# Altium footprint library FS44B0.PcbLib: 40 footprints (part 2 of 3)
Each footprint in its own frame and in the unit in brackets; x right, y up, seen from the top. Pads: shape width x height; smd on the part's side, far side on the other; paste and mask are expansions set on the pad; w line width, h text height; cw(c..) or ccw(c..) is an arc to the next point about the centre after c.
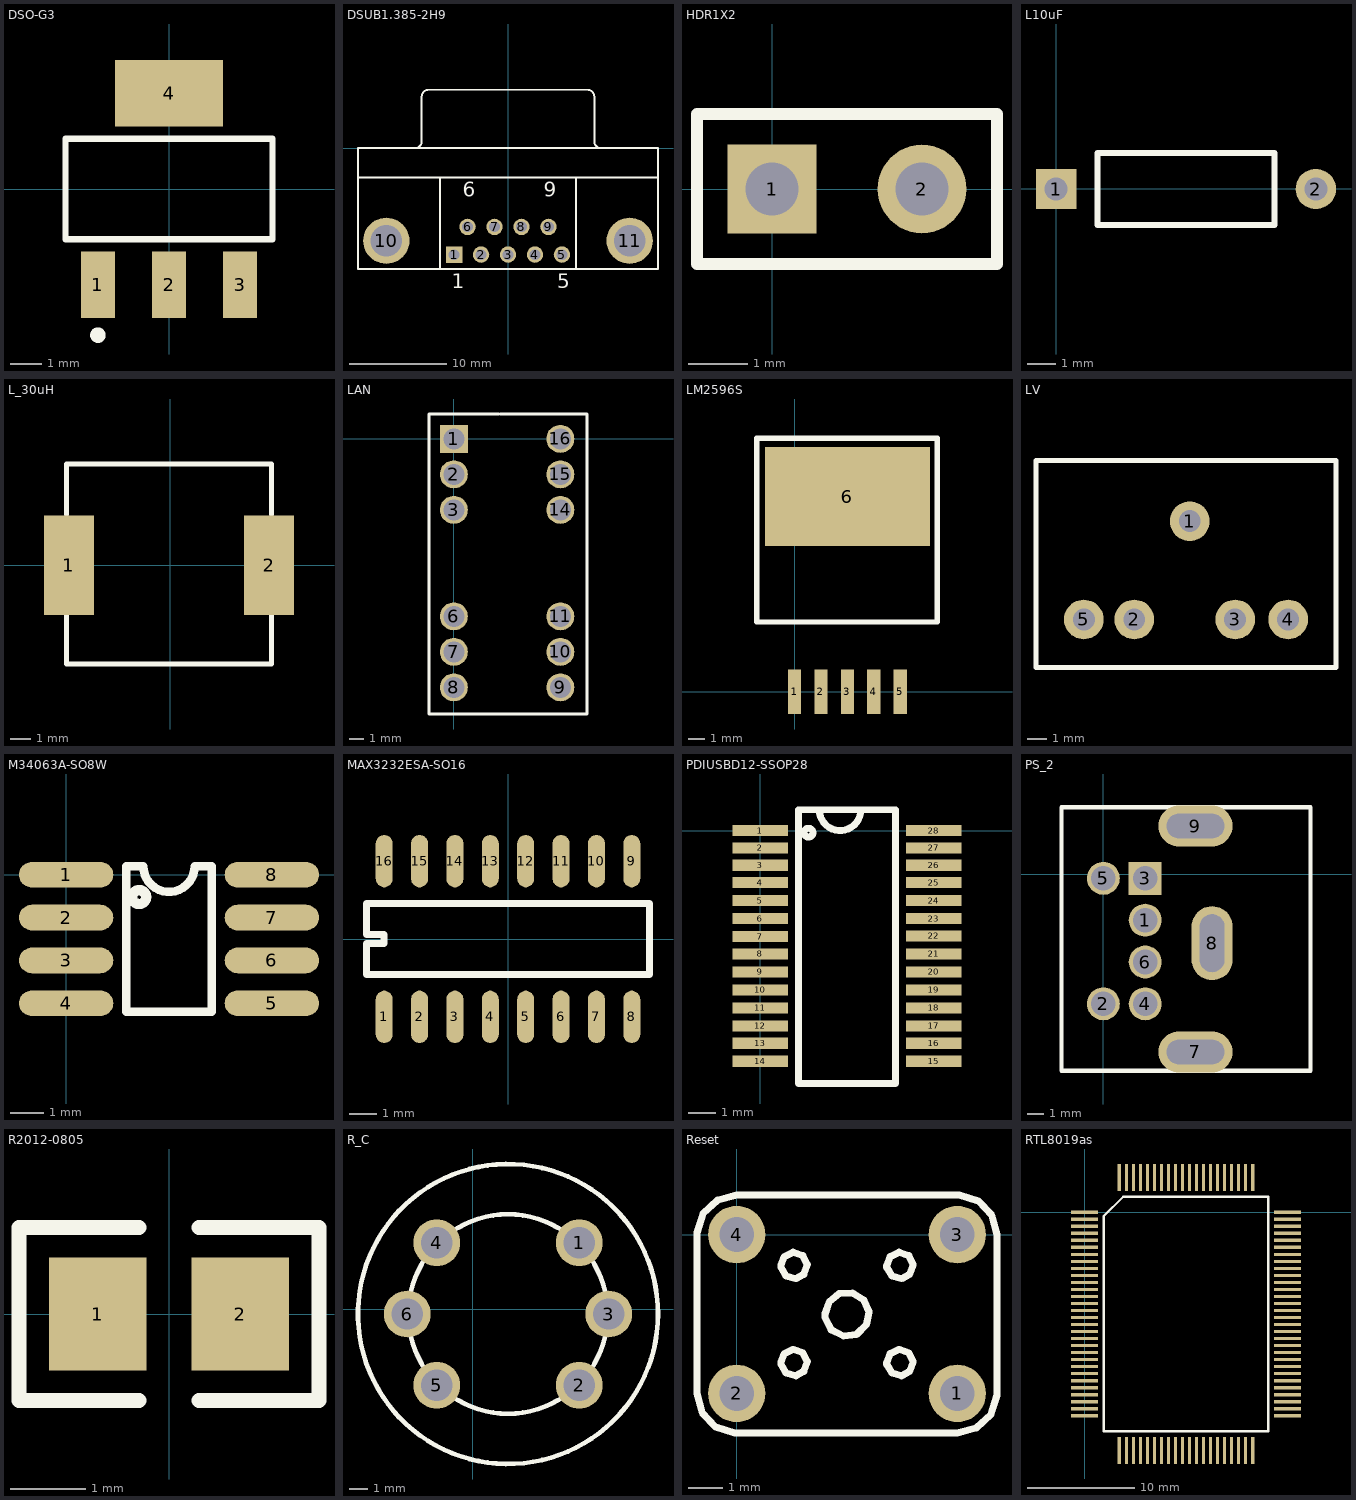
[diagram p1: the footprints below, top view; thin cyan lines are the x and y axes]

## DSO-G3 [mm] "SOT-223/SC-73; 4 Leads; Body 6.7 x 7.3 mm, inc. leads (LxW max)"
pads (4):
  rect 1.1x2.15 smd: 1(-2.3,-3.1) 2(0,-3.1) 3(2.3,-3.1)
  rect 3.5x2.15 smd: 4(0,3.1)
Top Overlay:
  circle w0.25: c-2.3,-4.725 r0.125
  lines w0.2: -3.35,-1.625 -3.35,1.625 3.35,1.625 3.35,-1.625 -3.35,-1.625

## DSUB1.385-2H9 [mm]
pads (11):
  rect 1.69x1.69 hole 1.09: 1(-5.54,-10.92)
  round 1.69 hole 1.09: 2(-2.77,-10.92) 3(0,-10.92) 4(2.77,-10.92) 5(5.54,-10.92) 6(-4.155,-8.08) 7(-1.385,-8.08) 8(1.385,-8.08) 9(4.155,-8.08)
  round 4.76 hole 3.26: 10(-12.495,-9.5) 11(12.495,-9.5)
Top Overlay:
  lines w0.2: -15.4,-3 15.4,-3 ; -9.56,0.005 ccw(c-9.56,0.7) -8.865,0.7 -8.865,5.3 ; -8.86,5.305 cw(c-8.165,5.305) -8.165,6 8.165,6 cw(c8.165,5.305) 8.86,5.305 ; -7,-12.4 -7,-3 ; 7,-12.4 7,-3 ; 8.865,5.3 8.865,0.7 ccw(c9.56,0.7) 9.56,0.005 ; -15.4,-12.4 15.4,-12.4 15.4,0 -15.4,0 -15.4,-12.4
  text "6" at -4.655,-4.975 h1.5
  text "9" at 3.655,-4.975 h1.5
  text "5" at 5.04,-14.375 h1.5
  text "1" at -5.79,-14.375 h1.5

## HDR1X2 [mm] "Connector; Header; 2 Position"
pads (2):
  rect 1.5x1.5 hole 0.9: 1(0,0)
  round 1.5 hole 0.9: 2(2.54,0)
Top Overlay:
  lines w0.2: -1.27,-1.27 -1.27,1.27 3.81,1.27 3.81,-1.27 -1.27,-1.27

## L10uF [mm]
pads (2):
  rect 1.4x1.4 hole 0.8: 1(0,0)
  round 1.4 hole 0.8: 2(9,0)
Top Overlay:
  lines w0.2: 1.435,-1.25 7.565,-1.25 7.565,1.25 3.875,1.25 1.435,1.25 1.435,-1.25

## L_30uH [mm]
pads (2):
  rect 2.5x5 smd: 1(-5.08,0) 2(4.953,0)
Top Overlay:
  lines w0.254: -5.207,-2.54 -5.207,-4.953 5.08,-4.953 5.08,-2.54 ; -5.207,2.54 -5.207,5.08 5.08,5.08 5.08,2.54

## LAN [mm]
pads (12):
  rect 2x2 hole 1.5: 1(0,0)
  round 2 hole 1.5: 2(0,-2.54) 3(0,-5.08) 6(0,-12.7) 7(0,-15.24) 8(0,-17.78) 9(7.62,-17.78) 10(7.62,-15.24) 11(7.62,-12.7) 14(7.62,-5.08) 15(7.62,-2.54) 16(7.62,0)
Top Overlay:
  lines w0.2: 3.175,1.778 -1.778,1.778 -1.778,-19.685 9.525,-19.685 9.525,1.778 3.302,1.778

## LM2596S [mm]
pads (6):
  rect 0.8x2.7 smd: 1(0,0) 2(1.6,0) 3(3.2,0) 4(4.8,0) 5(6.4,0)
  rect 10x6 smd: 6(3.2,11.8)
Top Overlay:
  lines w0.305: -2.286,4.208 8.636,4.208 8.636,15.333 -2.286,15.333 -2.286,4.208
Bottom Paste:
  lines w0.254: -1.8,4.25 -1.8,8.55 8.2,8.55 8.2,4.25 -1.8,4.25

## LV [mm]
pads (5):
  round 2 hole 1.1: 1(-749.173,-906.78) 2(-751.967,-911.733) 3(-746.887,-911.733) 4(-744.22,-911.733) 5(-754.507,-911.733)
Top Overlay:
  lines w0.254: -756.92,-914.146 -756.92,-903.732 -741.807,-903.732 -741.807,-914.146 -756.92,-914.146

## M34063A-SO8W [mil]
pads (8):
  oval 110x30 smd: 1(0,0) 2(0,-50) 3(0,-100) 4(0,-150) 5(240,-150) 6(240,-100) 7(240,-50) 8(240,0)
Top Overlay:
  circle w12: c85.18,-26.11 r8.12
  lines w10: 70,-160 170,-160 170,10 150,10 cw(c120,10) 90,10 70,10 70,-160

## MAX3232ESA-SO16 [mil]
pads (16):
  oval 24x74 smd: 1(-175,-110) 2(-125,-110) 3(-75,-110) 4(-25,-110) 5(25,-110) 6(75,-110) 7(125,-110) 8(175,-110) 9(175,110) 10(125,110) 11(75,110) 12(25,110) 13(-25,110) 14(-75,110) 15(-125,110) 16(-175,110)
Top Overlay:
  lines w10: -200,-50 -200,-6.25 -175,-6.25 -175,6.25 -200,6.25 -200,50 200,50 200,-50 -200,-50

## PDIUSBD12-SSOP28 [mil]
pads (28):
  rect 80x16 smd: 1(0,0) 2(0,-25) 3(0,-50) 4(0,-75) 5(0,-101) 6(0,-127) 7(0,-153) 8(0,-178) 9(0,-204) 10(0,-230) 11(0,-256) 12(0,-282) 13(0,-307) 14(0,-333) 15(250,-333) 16(250,-307) 17(250,-282) 18(250,-256) 19(250,-230) 20(250,-204) 21(250,-178) 22(250,-152) 23(250,-127) 24(250,-101) 25(250,-75) 26(250,-50) 27(250,-25) 28(250,0)
Top Overlay:
  circle w10: c69.44,-3.02 r6.41
  lines w10: 85,30 ccw(c115,30) 145,30 ; 55,-365 195,-365 195,30 55,30 55,-365

## PS_2 [mm]
pads (9):
  round 2 hole 1.5: 1(2.54,-2.794) 2(0,-7.874) 4(2.54,-7.874) 5(0,-0.254) 6(2.54,-5.334)
  rect 2x2 hole 1.5: 3(2.54,-0.254)
  oval 4.5x2.5 hole 1.5 slot 3.5 at 0 deg: 7(5.588,-10.795) 9(5.588,2.921)
  oval 2.5x4.5 hole 1.5 slot 3.5 at 90 deg: 8(6.604,-4.191)
Top Overlay:
  lines w0.254: -2.54,-11.938 12.573,-11.938 12.573,4.064 -2.54,4.064 -2.54,-11.938

## R2012-0805 [mm] "Thermistor; 2 Leads"
pads (2):
  rect 1.3x1.5 smd: 1(-0.95,0) 2(0.95,0)
Top Overlay:
  lines w0.2: -0.4,-1.15 -2,-1.15 -2,1.15 -0.4,1.15 ; 0.4,-1.15 2,-1.15 2,1.15 0.4,1.15

## R_C [mm]
pads (6):
  round 2.54 hole 1.7: 1(5.767,3.608) 2(5.767,-4.116) 3(7.366,-0.254) 4(-1.957,3.608) 5(-1.957,-4.116) 6(-3.556,-0.254)
Top Overlay:
  circle w0.254: c1.905,-0.254 r8.129
  circle w0.254: c1.905,-0.254 r5.403

## Reset [mil]
pads (4):
  round 65 hole 39.37: 1(250,-180) 2(0,-180) 3(250,0) 4(0,0)
Top Overlay:
  lines w8: -45,-180 -39,-202 -24,-218 -2,-225 0,-225 250,-225 272,-219 288,-204 295,-182 295,-180 295,0 289,22 274,38 252,45 250,45 0,45 -22,39 -38,24 -45,2 -45,0 -45,-180 ; 50,-147 56,-157 67,-160 76,-155 80,-144 75,-134 64,-130 54,-135 50,-145 50,-147 ; 50,-37 56,-47 67,-50 76,-45 80,-34 75,-24 64,-20 54,-25 50,-35 50,-37 ; 100,-94 107,-108 121,-115 136,-113 147,-102 150,-88 144,-74 131,-66 116,-67 105,-76 100,-90 100,-94 ; 170,-147 176,-157 187,-160 196,-155 200,-144 195,-134 184,-130 174,-135 170,-145 170,-147 ; 170,-37 176,-47 187,-50 196,-45 200,-34 195,-24 184,-20 174,-25 170,-35 170,-37

## RTL8019as [mm]
pads (100):
  rect 2.5x0.3 smd: 1(0,0) 2(0,-0.65) 3(0,-1.3) 4(0,-1.95) 5(0,-2.6) 6(0,-3.25) 7(0,-3.9) 8(0,-4.55) 9(0,-5.2) 10(0,-5.85) 11(0,-6.5) 12(0,-7.15) 13(0,-7.8) 14(0,-8.45) 15(0,-9.1) 16(0,-9.75) 17(0,-10.4) 18(0,-11.05) 19(0,-11.7) 20(0,-12.35) 21(0,-13) 22(0,-13.65) 23(0,-14.3) 24(0,-14.95) 25(0,-15.6) 26(0,-16.25) 27(0,-16.9) 28(0,-17.55) 29(0,-18.2) 30(0,-18.85) 51(18.8,-18.85) 52(18.8,-18.2) 53(18.8,-17.55) 54(18.8,-16.9) 55(18.8,-16.25) 56(18.8,-15.6) 57(18.8,-14.95) 58(18.8,-14.3) 59(18.8,-13.65) 60(18.8,-13) 61(18.8,-12.35) 62(18.8,-11.7) 63(18.8,-11.05) 64(18.8,-10.4) 65(18.8,-9.75) 66(18.8,-9.1) 67(18.8,-8.45) 68(18.8,-7.8) 69(18.8,-7.15) 70(18.8,-6.5) 71(18.8,-5.85) 72(18.8,-5.2) 73(18.8,-4.55) 74(18.8,-3.9) 75(18.8,-3.25) 76(18.8,-2.6) 77(18.8,-1.95) 78(18.8,-1.3) 79(18.8,-0.65) 80(18.8,0)
  rect 0.3x2.5 smd: 31(3.225,-22.075) 32(3.875,-22.075) 33(4.525,-22.075) 34(5.175,-22.075) 35(5.825,-22.075) 36(6.475,-22.075) 37(7.125,-22.075) 38(7.775,-22.075) 39(8.425,-22.075) 40(9.075,-22.075) 41(9.725,-22.075) 42(10.375,-22.075) 43(11.025,-22.075) 44(11.675,-22.075) 45(12.325,-22.075) 46(12.975,-22.075) 47(13.625,-22.075) 48(14.275,-22.075) 49(14.925,-22.075) 50(15.575,-22.075) 81(15.575,3.225) 82(14.925,3.225) 83(14.275,3.225) 84(13.625,3.225) 85(12.975,3.225) 86(12.325,3.225) 87(11.675,3.225) 88(11.025,3.225) 89(10.375,3.225) 90(9.725,3.225) 91(9.075,3.225) 92(8.425,3.225) 93(7.775,3.225) 94(7.125,3.225) 95(6.475,3.225) 96(5.825,3.225) 97(5.175,3.225) 98(4.525,3.225) 99(3.875,3.225) 100(3.225,3.225)
Top Overlay:
  lines w0.2: 1.785,-20.29 17.015,-20.29 17.015,1.44 3.57,1.44 1.785,-0.345 1.785,-20.29